# Altium schematic symbol library Connector.SchLib: 7 symbols
Pins are listed as number, name and electrical type; pins without a type are passive.

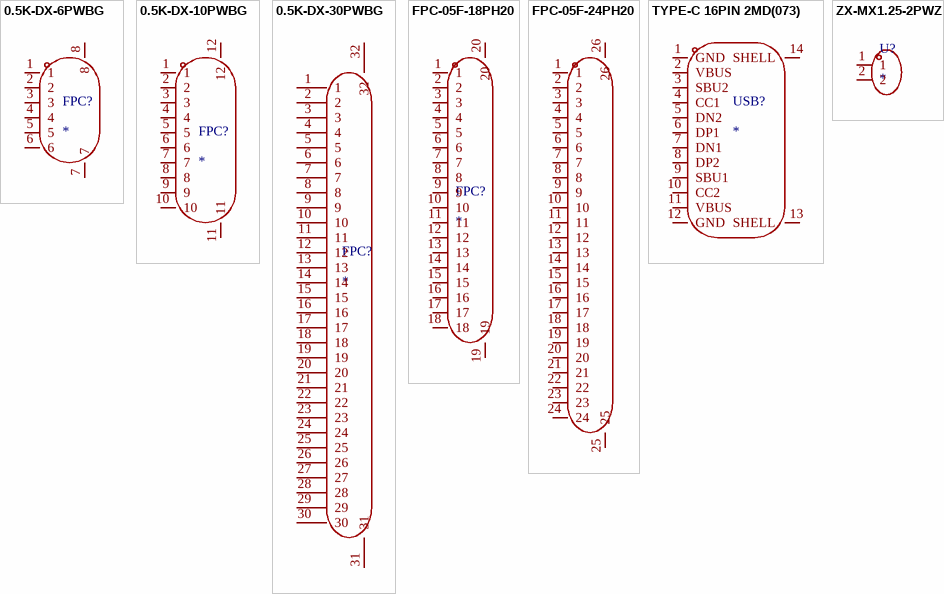
[diagram p0: symbols 0.5K-DX-6PWBG to ZX-MX1.25-2PWZ]

## 0.5K-DX-6PWBG
designator FPC?
footprint FPC-SMD_6P-P0.50_DEALON_0.5K-DX-6PWB
pins: 1, 2, 3, 4, 5, 6, 7, 8

## 0.5K-DX-10PWBG
designator FPC?
footprint FPC-SMD_10P-P0.50_HDGC_0.5K-DX-10PWBG
pins: 1, 2, 3, 4, 5, 6, 7, 8, 9, 10, 11, 12

## 0.5K-DX-30PWBG
designator FPC?
footprint FPC-SMD_6P-P0.50_DEALON_0.5K-DX-30PWB
pins: 1, 2, 3, 4, 5, 6, 7, 8, 9, 10, 11, 12, 13, 14, 15, 16, 17, 18, 19, 20, 21, 22, 23, 24, 25, 26, 27, 28, 29, 30, 31, 32

## FPC-05F-18PH20
designator FPC?
footprint FPC-SMD_18P-P0.50_FPC-05F-18PH20
pins: 1, 2, 3, 4, 5, 6, 7, 8, 9, 10, 11, 12, 13, 14, 15, 16, 17, 18, 19, 20

## FPC-05F-24PH20
designator FPC??  (value not drawn)
Manufacturer: XUNPU(讯普); Add into BOM: yes; Locking Feature: Clamshell; Number of Contacts: 24P; Pitch: 0.5mm; FFC, FCB Thickness: 0.3mm; Symbol: FPC-05F-24PH20; Device: FPC-05F-24PH20; LCSC Part Name: 间距:0.5mm P数:24P 翻盖式 下接; Supplier Part: C2856805; Manufacturer Part: FPC-05F-24PH20; Supplier Footprint: SMD,P=0.5mm,卧贴; JLCPCB Part Class: Extended Part; Datasheet: https://atta.szlcsc.com/upload/public/pdf/source/20210922/C2856805_8542C20E2D7FF0FC4EEBD919AE0F6905.pdf; Supplier: LCSC; Convert to PCB: yes; Contact Type: Bottom Contact; Mounting Type: 卧贴; Height Above Board: 2mm; Operating Temperature Range: -25℃~+85℃
footprint FPC-SMD_24P-P0.50_FPC-05F-24PH20
3D model FPC-SMD_24P-P0.50_FPC-05F-24PH20
pins: 1, 2, 3, 4, 5, 6, 7, 8, 9, 10, 11, 12, 13, 14, 15, 16, 17, 18, 19, 20, 21, 22, 23, 24, 25, 26

## TYPE-C 16PIN 2MD(073)
designator USB?
footprint USB-C-SMD_TYPE-C-6PIN-2MD-073
pins: 1 GND, 2 VBUS, 3 SBU2, 4 CC1, 5 DN2, 6 DP1, 7 DN1, 8 DP2, 9 SBU1, 10 CC2, 11 VBUS, 12 GND, 13 SHELL, 14 SHELL

## ZX-MX1.25-2PWZ
designator U?
footprint CONN-TH_2P-P1.25_ZX-MX1.25-2PWZ
pins: 1, 2